# EAGLE library part OPA1679 (library wb-opamps)
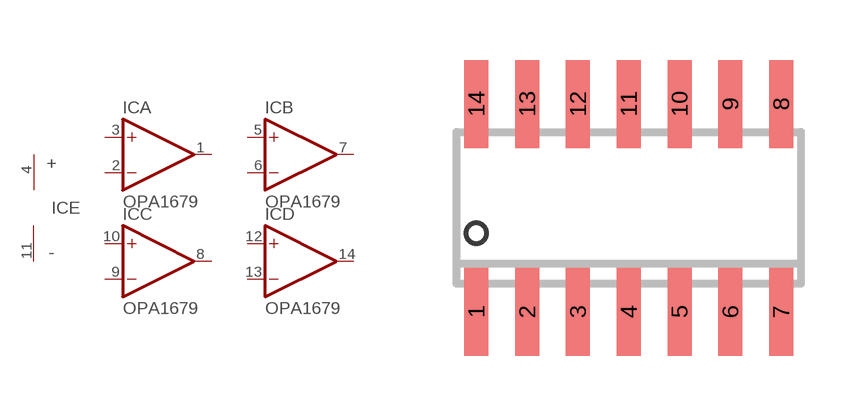
[diagram p1: symbol with the pads of S014; footprint S014]

Designator prefix IC; gates A=TYP-OP B=TYP-OP C=TYP-OP D=TYP-OP E=TYP-PWR

## OPA1679S  [S014]
1  A:OUT  out
2  A:INVERTING(-)  in
3  A:NON-INVERTING(+)  in
4  E:V+  pwr
5  B:NON-INVERTING(+)  in
6  B:INVERTING(-)  in
7  B:OUT  out
8  C:OUT  out
9  C:INVERTING(-)  in
10  C:NON-INVERTING(+)  in
11  E:V-  pwr
12  D:NON-INVERTING(+)  in
13  D:INVERTING(-)  in
14  D:OUT  out

## Footprint S014 (pad centres in mm)
smd 0.6 x 2.2: 1 -3.81,-2.6; 2 -2.54,-2.6; 3 -1.27,-2.6; 4 0,-2.6; 5 1.27,-2.6; 6 2.54,-2.6; 7 3.81,-2.6; 8 3.81,2.6; 9 2.54,2.6; 10 1.27,2.6; 11 0,2.6; 12 -1.27,2.6; 13 -2.54,2.6; 14 -3.81,2.6